# Altium footprint library STDLIB.PcbLib: 25 footprints (part 2 of 2)
Each footprint in its own frame and in the unit in brackets; x right, y up, seen from the top. Pads: shape width x height; smd on the part's side, far side on the other; paste and mask are expansions set on the pad; w line width, h text height; cw(c..) or ccw(c..) is an arc to the next point about the centre after c.
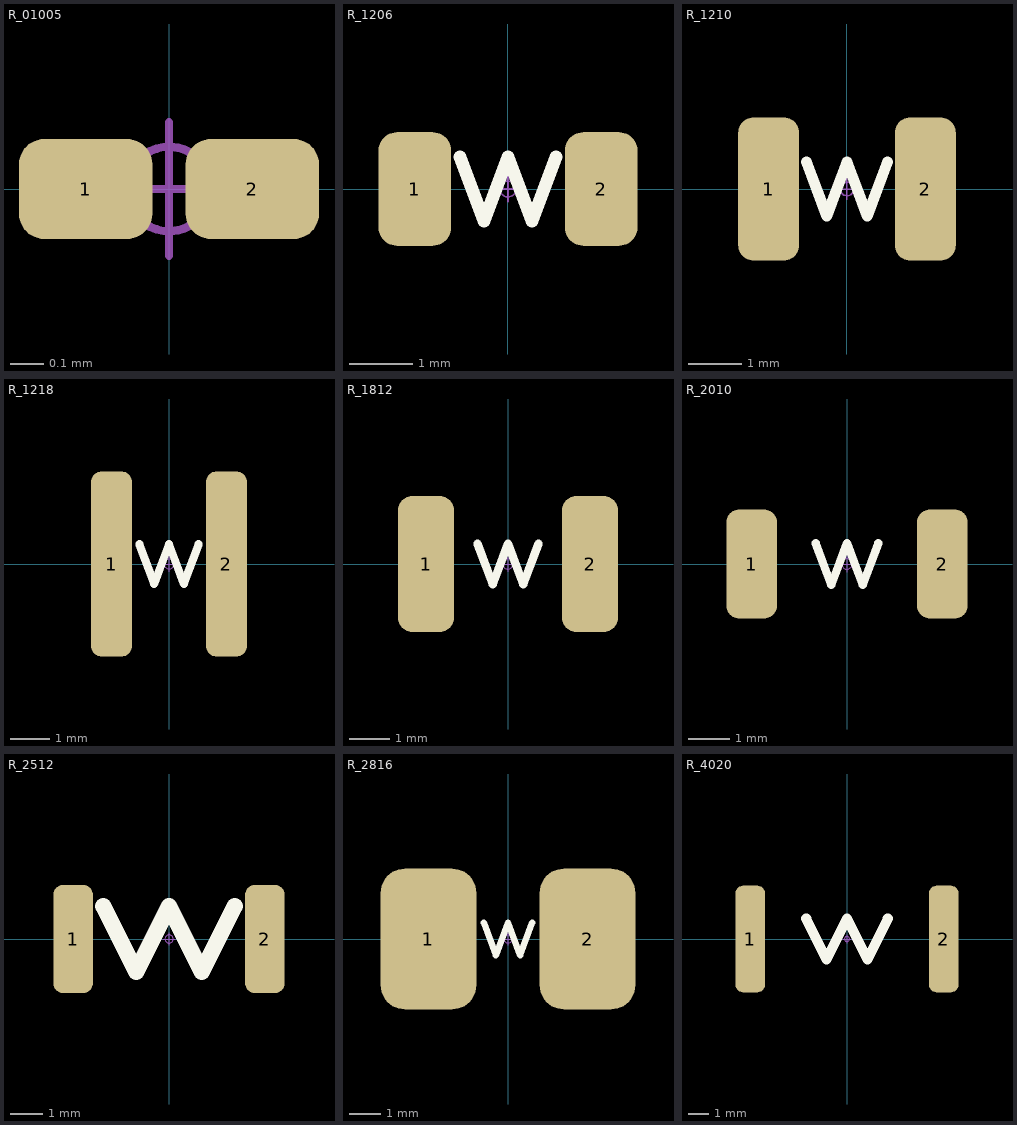
[diagram p1: the footprints below, top view; thin cyan lines are the x and y axes]

## R_01005 [mm]
pads (2):
  rrect50% 0.4x0.3 smd paste+0 mask+0: 1(-0.25,0) 2(0.25,0)
Mechanical 15:
  circle w0.025: c0,0 r0.127
  lines w0.025: -0.2,0 0.2,0 ; 0,-0.2 0,0.2
3D body "R01005.STEP": height 0.13, standoff 0, extent -0.199,-0.1 0.199,0.1

## R_1206 [mm]
pads (2):
  rrect50% 1.15x1.8 smd paste+0 mask+0: 1(-1.475,0) 2(1.475,0)
Top Overlay:
  lines w0.203: -0.762,0.508 -0.381,-0.508 0,0.508 0.381,-0.508 0.762,0.508
Mechanical 15:
  circle w0.025: c0,0 r0.127
  lines w0.025: -0.2,0 0.2,0 ; 0,-0.2 0,0.2
3D body "R1206-2.stp": height 0.56, standoff 0, extent -1.6,-0.8 1.6,0.8

## R_1210 [mm]
pads (2):
  rrect50% 1.15x2.7 smd paste+0 mask+0: 1(-1.475,0) 2(1.475,0)
Top Overlay:
  lines w0.203: -0.762,0.508 -0.381,-0.508 0,0.508 0.381,-0.508 0.762,0.508
Mechanical 15:
  circle w0.025: c0,0 r0.127
  lines w0.025: -0.2,0 0.2,0 ; 0,-0.2 0,0.2
3D body "R1210-2.stp": height 0.56, standoff 0, extent -1.6,-1.25 1.6,1.25

## R_1218 [mm]
pads (2):
  rrect50% 1.05x4.75 smd paste+0 mask+0: 1(-1.475,0) 2(1.475,0)
Top Overlay:
  lines w0.203: -0.762,0.508 -0.381,-0.508 0,0.508 0.381,-0.508 0.762,0.508
Mechanical 15:
  circle w0.025: c0,0 r0.127
  lines w0.025: -0.2,0 0.2,0 ; 0,-0.2 0,0.2
3D body "RCL121815R0FKEK.stp": height 0.6, standoff 0, extent -1.575,-2.3 1.575,2.3

## R_1812 [mm]
pads (2):
  rrect50% 1.4x3.4 smd paste+0 mask+0: 1(-2.05,0) 2(2.05,0)
Top Overlay:
  lines w0.203: -0.762,0.508 -0.381,-0.508 0,0.508 0.381,-0.508 0.762,0.508
Mechanical 15:
  circle w0.025: c0,0 r0.127
  lines w0.025: -0.2,0 0.2,0 ; 0,-0.2 0,0.2
3D body "R1812-2.stp": height 0.56, standoff 0, extent -2.25,-1.6 2.25,1.6

## R_2010 [mm]
pads (2):
  rrect50% 1.225x2.65 smd paste+0 mask+0: 1(-2.312,0) 2(2.312,0)
Top Overlay:
  lines w0.203: -0.762,0.508 -0.381,-0.508 0,0.508 0.381,-0.508 0.762,0.508
Mechanical 15:
  circle w0.025: c0,0 r0.127
  lines w0.025: -0.2,0 0.2,0 ; 0,-0.2 0,0.2
3D body "R2010-2.stp": height 0.56, standoff 0, extent -2.5,-1.25 2.5,1.25

## R_2512 [mm]
pads (2):
  rrect50% 1.225x3.35 smd paste+0 mask+0: 1(-2.962,0) 2(2.962,0)
Top Overlay:
  lines w0.508: -2.032,1.016 -1.016,-1.016 0,1.016 1.016,-1.016 2.032,1.016
Mechanical 15:
  circle w0.025: c0,0 r0.127
  lines w0.025: -0.2,0 0.2,0 ; 0,-0.2 0,0.2
3D body "R2512-2.stp": height 0.56, standoff 0, extent -3.2,-1.6 3.2,1.6

## R_2816 [mm]
pads (2):
  rrect50% 3.025x4.45 smd paste+0 mask+0: 1(-2.512,0) 2(2.512,0)
Top Overlay:
  lines w0.203: -0.762,0.508 -0.381,-0.508 0,0.508 0.381,-0.508 0.762,0.508
Mechanical 15:
  circle w0.025: c0,0 r0.127
  lines w0.025: -0.2,0 0.2,0 ; 0,-0.2 0,0.2
3D body "WSL2816R0150DEH.stp": height 0.64, standoff 0, extent -3.55,-2.1 3.55,2.1

## R_4020 [mm]
pads (2):
  rrect50% 1.475x5.3 smd paste+0 mask+0: 1(-4.812,0) 2(4.812,0)
Top Overlay:
  lines w0.508: -2.032,1.016 -1.016,-1.016 0,1.016 1.016,-1.016 2.032,1.016
Mechanical 15:
  circle w0.025: c0,0 r0.127
  lines w0.025: -0.2,0 0.2,0 ; 0,-0.2 0,0.2
3D body "HVC4020V5006JET.stp": height 0.8, standoff 0, extent -5.138,-2.588 5.138,2.588